# Altium schematic symbol library ДИОДЫ.SchLib: 9 symbols
Pins are listed as number, name and electrical type; pins without a type are passive.

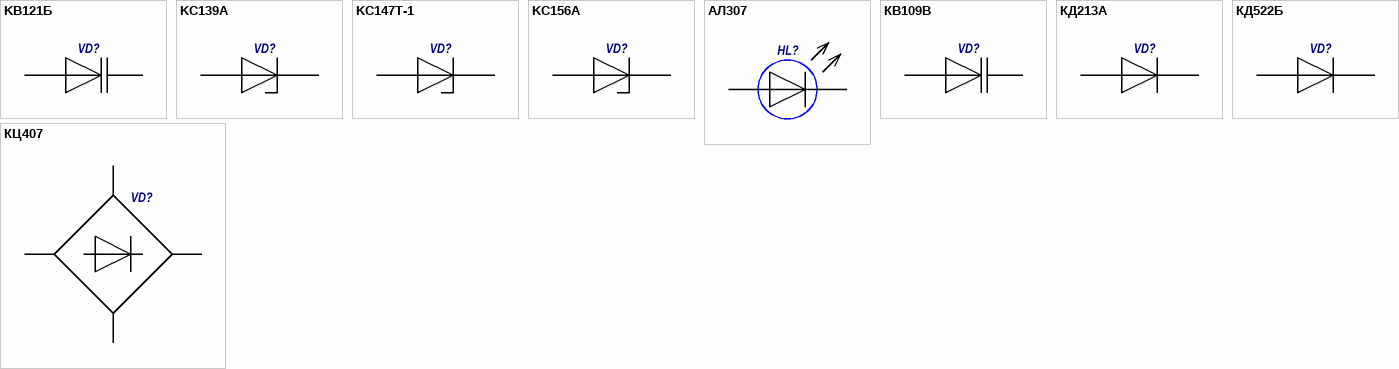
[diagram p0: symbols KB121Б to КЦ407]

## KB121Б
designator VD?  (value not drawn)
Value: {Value}
footprint КВ109В
pins: 1, 2

## KC139A
designator VD?  (value not drawn)
Value: {Value}
footprint KC139
pins: 1, 2

## KC147T-1
designator VD?  (value not drawn)
Value: {Value}
footprint KC147T-1
pins: 1, 2

## KC156A
designator VD?  (value not drawn)
Value: {Value}
footprint KC156A
pins: 1, 2

## АЛ307
designator HL?  (value not drawn)
Value: {Value}
footprint АЛ307
pins: 1, 2

## КВ109В
designator VD?  (value not drawn)
Value: {Value}
footprint КВ109В
pins: 1, 2

## КД213А
designator VD?  (value not drawn)
Value: {Value}
footprint КД213
pins: 1, 2

## КД522Б
designator VD?  (value not drawn)
Value: {Value}
footprint КД522
pins: 1, 2

## КЦ407
designator VD?  (value not drawn)
Value: {Value}
footprint КЦ407
pins: 1, 2, 3, 4 hidden, 5 4, 6 hidden